# EAGLE library part DS2480B (library lib_stankus)
Maxim DS2480B Farnell #9725326
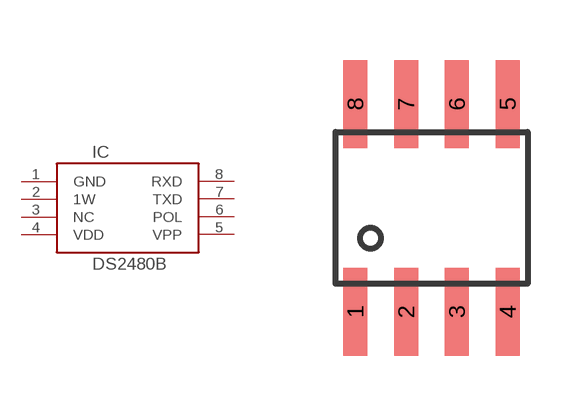
[diagram p68: symbol with the pads of SOIC8; footprint SOIC8]

Designator prefix IC

## DS2480B-SOIC8  [SOIC8]
1  GND  pas
2  1W  pas
3  NC  nc
4  VDD  pas
5  VPP  pas
6  POL  pas
7  TXD  pas
8  RXD  pas

## Footprint SOIC8 (pad centres in mm)
SOIC8
smd 0.6 x 2.2: 1 -1.905,-2.6; 2 -0.635,-2.6; 3 0.635,-2.6; 4 1.905,-2.6; 5 1.905,2.6; 6 0.635,2.6; 7 -0.635,2.6; 8 -1.905,2.6